# Altium footprint library PCB1.PcbLib: 14 footprints
Each footprint in its own frame and in the unit in brackets; x right, y up, seen from the top. Pads: shape width x height; smd on the part's side, far side on the other; paste and mask are expansions set on the pad; w line width, h text height; cw(c..) or ccw(c..) is an arc to the next point about the centre after c.
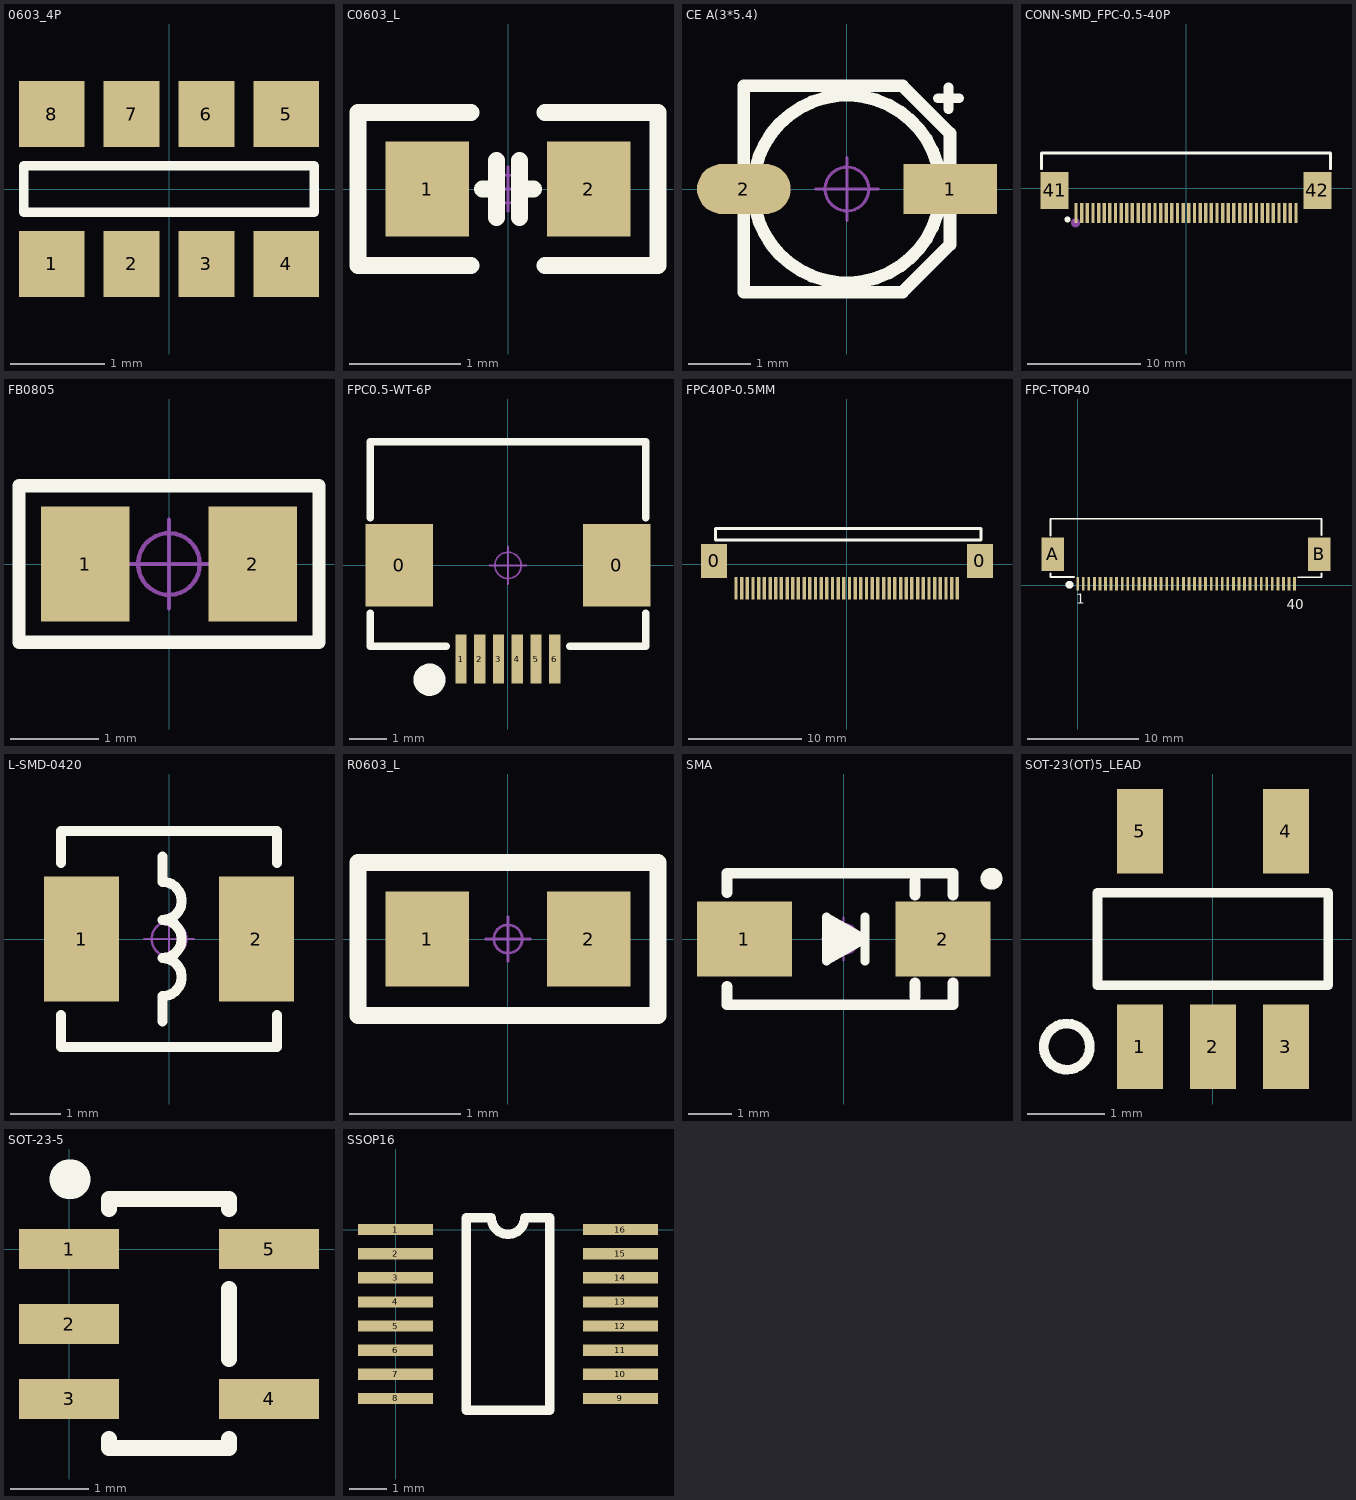
[diagram p0: the footprints below, top view; thin cyan lines are the x and y axes]

## 0603_4P [mm]
height 0.5
pads (8):
  rect 0.7x0.7 smd: 1(-1.25,-0.8) 4(1.25,-0.8) 5(1.25,0.8) 8(-1.25,0.8)
  rect 0.6x0.7 smd: 2(-0.4,-0.8) 3(0.4,-0.8) 6(0.4,0.8) 7(-0.4,0.8)
Top Overlay:
  lines w0.102: -1.55,-0.25 -1.55,0.25 1.55,0.25 1.55,-0.25 -1.55,-0.25

## C0603_L [mm] "贴片MLCC电容"
pads (2):
  rect 0.75x0.85 smd: 1(-0.725,0) 2(0.725,0)
Top Overlay:
  lines w0.152: -0.33,-0.686 -1.346,-0.686 -1.346,0.686 -0.33,0.686 ; -0.229,0 -0.102,0 ; -0.102,-0.254 -0.102,0.254 ; 0.102,-0.254 0.102,0.254 ; 0.102,0 0.229,0 ; 0.33,-0.686 1.346,-0.686 1.346,0.686 0.33,0.686
Mechanical 15:
  circle w0.025: c0,0 r0.127
  lines w0.025: -0.2,0 0.2,0 ; 0,-0.2 0,0.2
3D body "C0603H08-2S.stp": height 0.8, standoff 0, extent -0.8,-0.4 0.8,0.4

## CE A(3*5.4) [mm] "贴片电解电容，直径3mm，高5.4mm    联系卖家 免费人工查找封装"
pads (2):
  rect 1.5x0.8 smd: 1(1.651,0)
  oval 1.5x0.8 smd: 2(-1.65,0)
Top Overlay:
  circle w0.203: c0,0 r1.5
  lines w0.152: 1.454,1.45 1.8,1.45 ; 1.625,1.275 1.625,1.625
  lines w0.203: -1.65,-1.65 0.89,-1.65 1.65,-0.89 1.65,0.89 0.89,1.65 -1.65,1.65 -1.65,-1.65
Mechanical 15:
  circle w0.05: c0,0 r0.35
  lines w0.05: -0.5,0 0.5,0 ; 0,-0.5 0,0.5
3D body "CE_SMD_a_3x5_4.STEP": height 5.45, standoff 0.04, extent -1.9,-1.65 1.9,1.65

## CONN-SMD_FPC-0.5-40P [mm]
pads (42):
  rect 0.3x1.8 smd paste+0 mask+0.05: 1(-9.75,-2.188) 2(-9.25,-2.188) 3(-8.75,-2.188) 4(-8.25,-2.188) 5(-7.75,-2.188) 6(-7.25,-2.188) 7(-6.75,-2.188) 8(-6.25,-2.188) 9(-5.75,-2.188) 10(-5.25,-2.188) 11(-4.75,-2.188) 12(-4.25,-2.188) 13(-3.75,-2.188) 14(-3.25,-2.188) 15(-2.75,-2.188) 16(-2.25,-2.188) 17(-1.75,-2.188) 18(-1.25,-2.188) 19(-0.75,-2.188) 20(-0.25,-2.188) 21(0.25,-2.188) 22(0.75,-2.188) 23(1.25,-2.188) 24(1.75,-2.188) 25(2.25,-2.188) 26(2.75,-2.188) 27(3.25,-2.188) 28(3.75,-2.188) 29(4.25,-2.188) 30(4.75,-2.188) 31(5.25,-2.188) 32(5.75,-2.188) 33(6.25,-2.188) 34(6.75,-2.188) 35(7.25,-2.188) 36(7.75,-2.188) 37(8.25,-2.188) 38(8.75,-2.188) 39(9.25,-2.188) 40(9.75,-2.188)
  rect 2.5x3.3 smd paste+0 mask+0.05: 41(-11.65,-0.188) 42(11.65,-0.188)
Top Overlay:
  circle w0.254: c-10.5,-2.764 r0.141
  lines w0.254: -12.8,1.736 -12.8,3.136 12.8,3.136 12.8,1.736
Mechanical 15:
  circle w0.4: c-9.8,-3.064 r0.2

## FB0805 [mm] "0805贴片磁珠"
height 0.5
pads (2):
  rect 1x1.3 smd: 1(-0.95,0) 2(0.95,0)
Top Overlay:
  lines w0.152: -1.702,-0.889 1.702,-0.889 1.702,0.889 -1.702,0.889 -1.702,-0.889
Mechanical 15:
  circle w0.05: c0,0 r0.35
  lines w0.05: -0.5,0 0.5,0 ; 0,-0.5 0,0.5
3D body "L0805H13-2S.stp": height 1.3, standoff 0, extent -1,-0.65 1,0.65

## FPC0.5-WT-6P [mm] "长：7.2mm，宽：5.2mm，高：2mm               黄晶宝石"
pads (8):
  rect 1.8x2.2 smd: 0(-2.9,0) 0(2.9,0)
  rect 0.3x1.3 smd: 1(-1.25,-2.497) 2(-0.75,-2.497) 3(-0.25,-2.497) 4(0.25,-2.497) 5(0.75,-2.497) 6(1.25,-2.497)
Top Overlay:
  circle w0.5: c-2.094,-3.048 r0.18
  lines w0.2: -3.675,-1.27 -3.675,-2.159 -1.643,-2.159 ; -3.675,1.27 -3.675,3.302 3.675,3.302 3.675,1.27 ; 1.643,-2.159 3.675,-2.159 3.675,-1.27
Mechanical 15:
  circle w0.05: c0,0 r0.35
  lines w0.05: -0.5,0 0.5,0 ; 0,-0.5 0,0.5
3D body "FPC0.5_2H-S-W-6P.STEP": height 2, standoff -0.01, extent -3.6,-3.15 3.6,2.85

## FPC40P-0.5MM [mm]
height 0.5
pads (42):
  rect 2.3x3 smd: 0(-11.7,0.297) 0(11.73,0.297)
  rect 0.3x2 smd: 1(9.736,-2.108) 2(9.236,-2.108) 3(8.736,-2.108) 4(8.236,-2.108) 5(7.736,-2.108) 6(7.236,-2.108) 7(6.736,-2.108) 8(6.236,-2.108) 9(5.736,-2.108) 10(5.236,-2.108) 11(4.736,-2.108) 12(4.236,-2.108) 13(3.736,-2.108) 14(3.236,-2.108) 15(2.736,-2.108) 16(2.236,-2.108) 17(1.736,-2.108) 18(1.236,-2.108) 19(0.736,-2.108) 20(0.236,-2.108) 21(-0.264,-2.108) 22(-0.764,-2.108) 23(-1.264,-2.108) 24(-1.764,-2.108) 25(-2.264,-2.108) 26(-2.764,-2.108) 27(-3.264,-2.108) 28(-3.764,-2.108) 29(-4.264,-2.108) 30(-4.764,-2.108) 31(-5.264,-2.108) 32(-5.764,-2.108) 33(-6.264,-2.108) 34(-6.764,-2.108) 35(-7.264,-2.108) 36(-7.764,-2.108) 37(-8.264,-2.108) 38(-8.764,-2.108) 39(-9.264,-2.108) 40(-9.764,-2.108)
Top Overlay:
  lines w0.254: -11.57,2.143 11.83,2.143 11.83,3.159 -11.57,3.159 -11.57,2.143

## FPC-TOP40 [mm]
pads (42):
  rect 0.25x1.2 smd: 1(0,0.102) 2(0.5,0.102) 3(1,0.102) 4(1.5,0.102) 5(2,0.102) 6(2.5,0.102) 7(3,0.102) 8(3.5,0.102) 9(4,0.102) 10(4.5,0.102) 11(5,0.102) 12(5.5,0.102) 13(6,0.102) 14(6.5,0.102) 15(7,0.102) 16(7.5,0.102) 17(8,0.102) 18(8.5,0.102) 19(9,0.102) 20(9.5,0.102) 21(10,0.102) 22(10.5,0.102) 23(11,0.102) 24(11.5,0.102) 25(12,0.102) 26(12.5,0.102) 27(13,0.102) 28(13.5,0.102) 29(14,0.102) 30(14.5,0.102) 31(15,0.102) 32(15.5,0.102) 33(16,0.102) 34(16.5,0.102) 35(17,0.102) 36(17.5,0.102) 37(18,0.102) 38(18.5,0.102) 39(19,0.102) 40(19.5,0.102)
  rect 2x3 smd: A(-2.25,2.754) B(21.725,2.754)
Top Overlay:
  circle w0.356: c-0.737,0.025 r0.178
  lines w0.127: -2.45,0.731 -2.438,0.719
  lines w0.152: -2.45,0.719 -0.305,0.719 ; -2.45,0.731 -2.45,1.067 ; -2.45,4.445 -2.45,5.969 21.925,5.969 21.925,4.47 ; 19.794,0.711 21.925,0.711 21.925,1.067
  text "1" at -0.142,-1.691 h0.89
  text "40" at 18.783,-2.184 h0.89

## L-SMD-0420 [mm] "一体化成型电感                     联系卖家 免费人工查找封装"
pads (2):
  rect 1.5x2.5 smd: 1(-1.75,0) 2(1.75,0)
Top Overlay:
  lines w0.203: -2.159,-1.524 -2.159,-2.159 2.159,-2.159 2.159,-1.524 ; -2.159,1.524 -2.159,2.159 2.159,2.159 2.159,1.524 ; -0.127,-1.651 -0.127,-1.143 ccw(c-0.127,-0.762) -0.127,-0.381 ccw(c-0.127,0) -0.127,0.381 ccw(c-0.127,0.762) -0.127,1.143 -0.127,1.651
Mechanical 15:
  circle w0.05: c0,0 r0.35
  lines w0.05: -0.5,0 0.5,0 ; 0,-0.5 0,0.5
3D body "SMD-0420-5.stp": height -0.43, standoff -2.46, extent -2.25,-2.05 2.25,2.05

## R0603_L [mm] "1/10W贴片电阻"
pads (2):
  rect 0.75x0.85 smd: 1(-0.725,0) 2(0.725,0)
Top Overlay:
  lines w0.152: -1.346,-0.686 1.346,-0.686 1.346,0.686 -1.346,0.686 -1.346,-0.686
Mechanical 15:
  circle w0.025: c0,0 r0.127
  lines w0.025: -0.2,0 0.2,0 ; 0,-0.2 0,0.2
3D body "R0603-2.stp": height 0.4, standoff 0, extent -0.8,-0.4 0.8,0.4

## SMA [mm] "4.5x2.6*2.2mm（长宽高，不包括引脚）联系卖家 免费查找封装"
height 2.54
pads (2):
  rect 2.2x1.75 smd: 1(-2.3,0) 2(2.3,0)
Top Overlay:
  circle w0.254: c3.429,1.397 r0.127
  lines w0.203: 0.494,-0.508 0.494,0.508 ; -0.395,-0.508 0.494,0 -0.395,0.508 -0.395,-0.508
  lines w0.254: -2.7,-1.105 -2.7,-1.524 2.54,-1.524 2.54,-1.016 ; -2.7,1.08 -2.7,1.524 2.54,1.524 2.54,1.016 ; -0.33,0.305 0.305,0 -0.254,-0.305 -0.254,0.051 0.023,0 ; 1.651,-1.35 1.651,-1.016 ; 1.651,1.016 1.651,1.35
Mechanical 15:
  circle w0.05: c0,0 r0.35
  lines w0.05: -0.5,0 0.5,0 ; 0,-0.5 0,0.5
3D body "SMA.stp": height 2.15, standoff 0.05, extent -2.552,-1.3 2.552,1.3

## SOT-23(OT)5_LEAD [mm]
pads (5):
  rect 0.6x1.1 smd: 1(-0.95,-1.4) 2(0,-1.4) 3(0.95,-1.4) 4(0.95,1.4) 5(-0.95,1.4)
Top Overlay:
  circle w0.127: c-1.9,-1.4 r0.3
  lines w0.127: -1.5,-0.6 -1.5,0.6 1.5,0.6 1.5,-0.6 -1.5,-0.6

## SOT-23-5 [mil]
pads (5):
  rect 50x20 smd: 1(0,0) 2(0,-37.4) 3(0,-74.8) 4(100,-74.8) 5(100,0)
Top Overlay:
  lines w8: 20,-95 20,-99.32 80,-99.32 80,-95 ; 20,20 20,25 80,25 80,20 ; 80,-55 80,-20
  lines w19.68: 0,35 1,35

## SSOP16 [mm]
pads (16):
  rect 2x0.3 smd: 1(0,0) 2(0,-0.643) 3(0,-1.286) 4(0,-1.929) 5(0,-2.572) 6(0,-3.215) 7(0,-3.858) 8(0,-4.501) 9(6,-4.501) 10(6,-3.858) 11(6,-3.215) 12(6,-2.572) 13(6,-1.929) 14(6,-1.286) 15(6,-0.643) 16(6,0)
Top Overlay:
  lines w0.254: 1.889,-4.822 4.111,-4.822 4.111,0.322 3.447,0.322 cw(c3,0.322) 2.553,0.322 1.889,0.322 1.889,-4.822
3D body "User Library-MAX_QSOP16.STEP": height 1.71, standoff -0.06, extent 0,-4.751 6.02,0.229